# Altium schematic symbol library Callisto Control Board.SchLib: 21 symbols
Pins are listed as number, name and electrical type; pins without a type are passive.

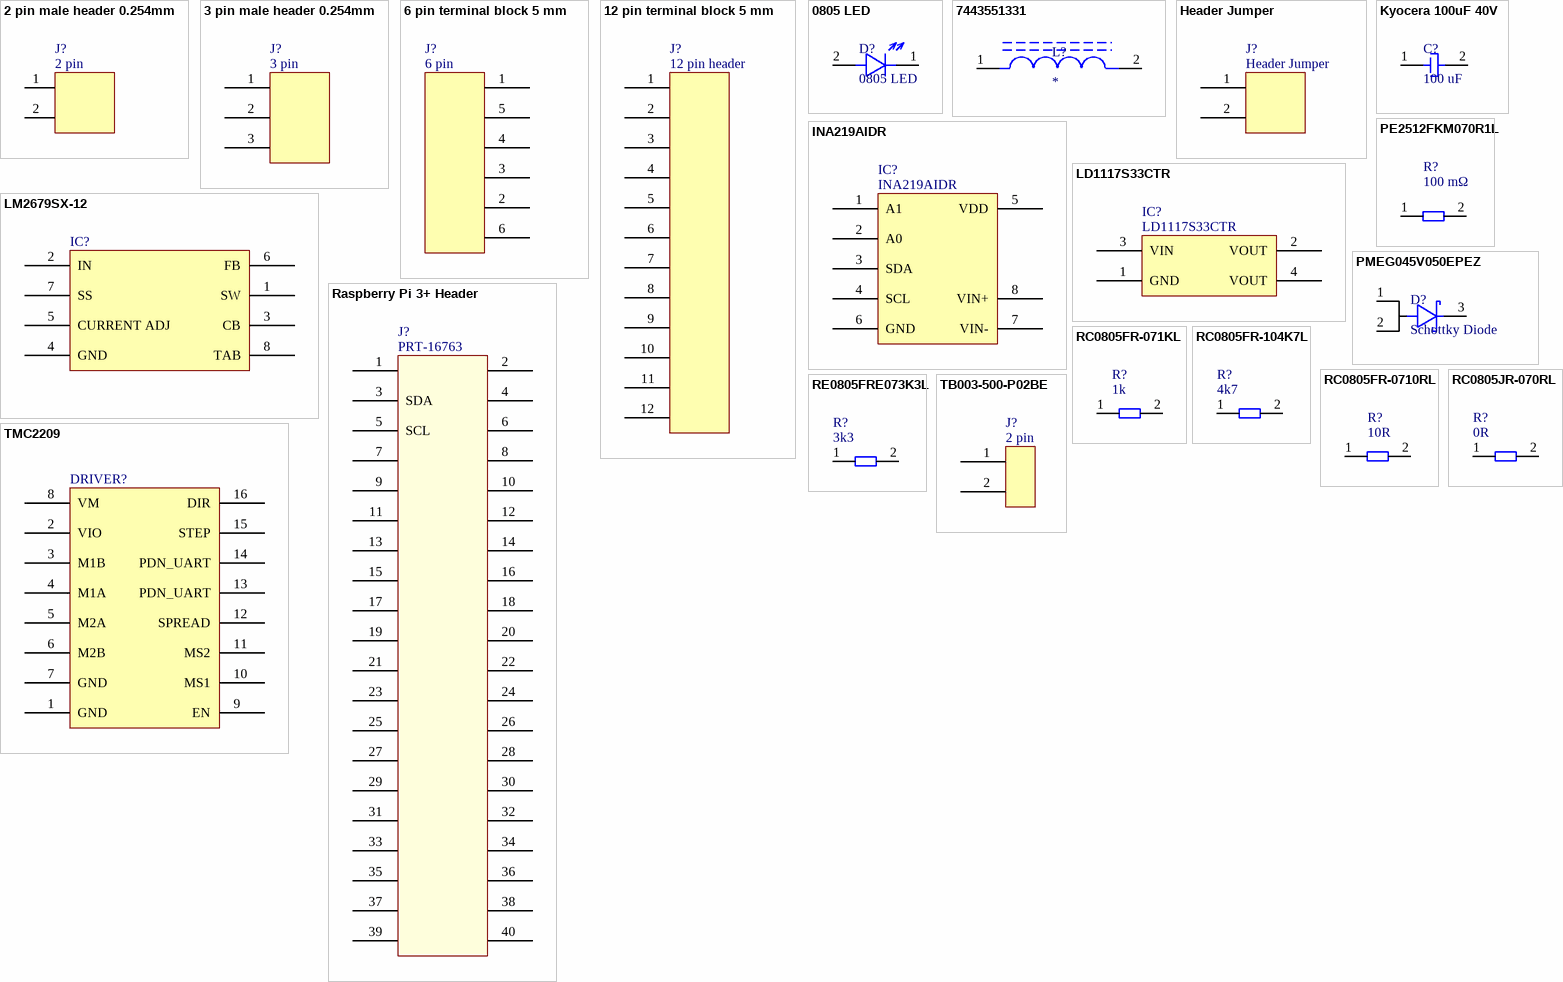
[diagram p0: symbols 2 pin male header 0.254mm to TMC2209]

## 2 pin male header 0.254mm
designator J?, comment 2 pin
footprint 2 pin header
pins: 1, 2

## 3 pin male header 0.254mm
designator J?, comment 3 pin
Part Number: *
footprint 3 pin header
pins: 1, 2, 3

## 6 pin terminal block 5 mm
designator J?, comment 6 pin
footprint 6 pin terminal 5 mm (6 pin terminal block 5 mm)
pins: 1, 2, 3, 4, 5, 6

## 12 pin terminal block 5 mm
designator J?, comment 12 pin header
12 pin terminal block 5 mm
footprint 12 pin terminal
pins: 1, 2, 3, 4, 5, 6, 7, 8, 9, 10, 11, 12

## 0805 LED
designator D?
Wurth Electronics 150080VS75000
footprint 0805 LED (Wurth Electronics / 150080VS75000)
pins: 1 Cathode, 2 Anode

## 7443551331
designator L?
Wurth Electronics 7443551331
footprint 7443551331 33uH (Wurth Electronics 7443551331 33uH)
pins: 1, 2

## Header Jumper
designator J?
Headers & Wire Housings SHUNT OPEN T BLK / SX1100-B
pins: 1, 2

## INA219AIDR
designator IC?
Current & Power Monitors & Regulators Zero-Drift,Bi-Dir Crnt/Pwr Monitor
footprint INA219AIDR (SOIC, 8-Leads, Body 5x4mm, Pitch 1.27mm, IPC High Density)
pins: 1 A1, 2 A0, 3 SDA, 4 SCL, 5 VDD, 6 GND, 7 VIN-, 8 VIN+

## Kyocera 100uF 40V
designator C?, comment 100 uF
Kyocera AHA1010101M040R
footprint AHA1010101M040R
pins: 1, 2

## LD1117S33CTR
designator IC?
IC REG LINEAR 3.3V 800MA SOT223
footprint LD1117
pins: 1 GND, 2 VOUT, 3 VIN, 4 VOUT

## LM2679SX-12
designator IC?
LM2679SX-12/NOPB
footprint TS7B_M (D2-PAK, 8-Leads, Body 8.6x10.2mm, Pitch 1.27mm, Lead Span 14.1mm, IPC Low Density)
pins: 1 SW, 2 IN, 3 CB, 4 GND, 5 CURRENT ADJ, 6 FB, 7 SS, 8 TAB

## PE2512FKM070R1L
designator R?, comment 100 mΩ
Current Sense Resistors - SMD 100 mOhms 1 Watt 1 % 75 ppm/C AEC-Q200 / PE2512FKM070R1L
footprint PE2512FKM070R1L
pins: 1, 2

## PMEG045V050EPEZ
designator D?, comment Schottky Diode
PMEG045V050EPEZ
footprint PMEG045V050EPE
pins: 1 Anode, 2 Anode, 3 Cathode

## Raspberry Pi 3+ Header
designator J?, comment PRT-16763
Headers & Wire Housings Extended GPIO Female Header - 2x20 Pin (16mm/7.30mm)
footprint FP-SFH11-PBPC-D20-ST-BK-MFG
pins: 1, 2, 3 SDA, 4, 5 SCL, 6, 7, 8, 9, 10, 11, 12, 13, 14, 15, 16, 17, 18, 19, 20, 21, 22, 23, 24, 25, 26, 27, 28, 29, 30, 31, 32, 33, 34, 35, 36, 37, 38, 39, 40

## RC0805FR-071KL
designator R?, comment 1k
Thick Film Resistors - SMD 1 kOhms 125 mW 0805 1% / RC0805FR-071KL; Value: 1k; Part Number: RC0805FR-071KL
footprint 0805 Resistor - IPC A
pins: 1, 2

## RC0805FR-104K7L
designator R?, comment 4k7
Thick Film Resistors - SMD 4.7 kOhms 250 mW 0805 1% / RC0805FR-104K7L; Value: 4k7
footprint 0805 Resistor - IPC A
pins: 1, 2

## RC0805FR-0710RL
designator R?, comment 10R
Thick Film Resistors - SMD 10 Ohms 125 mW 0805 1% / RC0805FR-0710RL
footprint 0805 Resistor - IPC A
pins: 1, 2

## RC0805JR-070RL
designator R?, comment 0R
Thick Film Resistors - SMD 0 Ohms 125 mW 0805 5% / RC0805JR-070RL
footprint 0805 Resistor - IPC A
pins: 1, 2

## RE0805FRE073K3L
designator R?, comment 3k3
Thick Film Resistors - SMD 3.3 kOhms 125 mW 0805 1% / RE0805FRE073K3L
footprint 0805 Resistor - IPC A
pins: 1, 2

## TB003-500-P02BE
designator J?, comment 2 pin
Fixed Terminal Blocks Terminal block, screw type, 5.00 , horizontal, 2 poles, CUI Blue, Philip's head screw, PCB mount; Value: 2 pin
footprint TB003-500-P02BE
pins: 1, 2

## TMC2209
designator DRIVER?
TMC2209 FET based stepper motor driver board
footprint TMC2209
pins: 1 GND, 2 VIO, 3 M1B, 4 M1A, 5 M2A, 6 M2B, 7 GND, 8 VM, 9 EN, 10 MS1, 11 MS2, 12 SPREAD, 13 PDN_UART, 14 PDN_UART, 15 STEP, 16 DIR